# EAGLE library part PIC24FJXXGB002 (library lib_stankus)
Microchip PIC24FJXXGB002 MCU
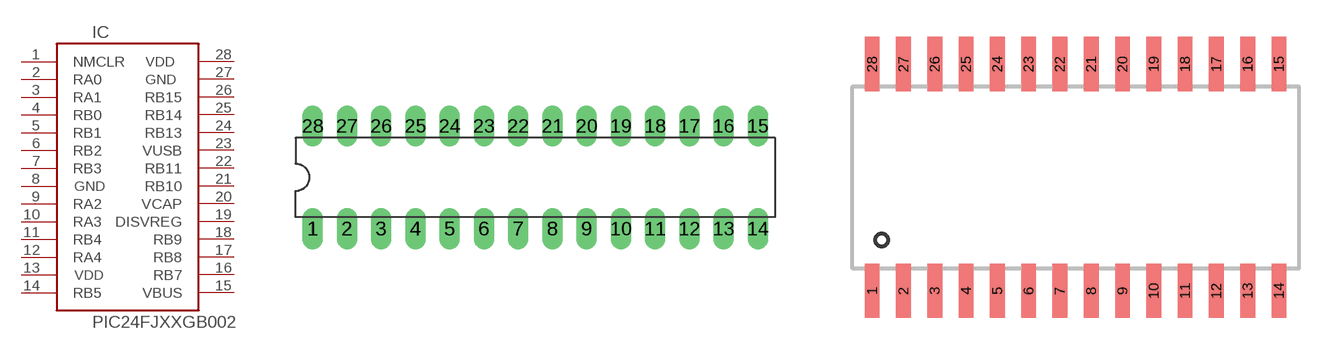
[diagram p14: symbol with the pads of SDIL28_BIG; footprints SDIL28_BIG, SO28W]

Designator prefix IC

## PIC24FJXXGB002-SDIL28_BIG  [SDIL28_BIG]
1  NMCLR  pas
2  RA0  pas
3  RA1  pas
4  RB0  pas
5  RB1  pas
6  RB2  pas
7  RB3  pas
8  GND  pas
9  RA2  pas
10  RA3  pas
11  RB4  pas
12  RA4  pas
13  VDD  pas
14  RB5  pas
15  VBUS  pas
16  RB7  pas
17  RB8  pas
18  RB9  pas
19  DISVREG  pas
20  VCAP  pas
21  RB10  pas
22  RB11  pas
23  VUSB  pas
24  RB13  pas
25  RB14  pas
26  RB15  pas
27  GND  pas
28  VDD  pas

## PIC24FJXXGB002-SO28W  [SO28W]
Pads as for SDIL28_BIG

## Footprint SDIL28_BIG (pad centres in mm)
SDIL28, 60MIL PADS
drill 0.8 pad 1.524 long: 1 -16.51,-3.81; 2 -13.97,-3.81; 3 -11.43,-3.81; 4 -8.89,-3.81; 5 -6.35,-3.81; 6 -3.81,-3.81; 7 -1.27,-3.81; 8 1.27,-3.81; 9 3.81,-3.81; 10 6.35,-3.81; 11 8.89,-3.81; 12 11.43,-3.81; 13 13.97,-3.81; 14 16.51,-3.81; 15 16.51,3.81; 16 13.97,3.81; 17 11.43,3.81; 18 8.89,3.81; 19 6.35,3.81; 20 3.81,3.81; 21 1.27,3.81; 22 -1.27,3.81; 23 -3.81,3.81; 24 -6.35,3.81; 25 -8.89,3.81; 26 -11.43,3.81; 27 -13.97,3.81; 28 -16.51,3.81

## Footprint SO28W (pad centres in mm)
SO28W
smd 0.6 x 2.2: 1 -8.255,-4.6; 2 -6.985,-4.6; 3 -5.715,-4.6; 4 -4.445,-4.6; 5 -3.175,-4.6; 6 -1.905,-4.6; 7 -0.635,-4.6; 8 0.635,-4.6; 9 1.905,-4.6; 10 3.175,-4.6; 11 4.445,-4.6; 12 5.715,-4.6; 13 6.985,-4.6; 14 8.255,-4.6; 15 8.255,4.6; 16 6.985,4.6; 17 5.715,4.6; 18 4.445,4.6; 19 3.175,4.6; 20 1.905,4.6; 21 0.635,4.6; 22 -0.635,4.6; 23 -1.905,4.6; 24 -3.175,4.6; 25 -4.445,4.6; 26 -5.715,4.6; 27 -6.985,4.6; 28 -8.255,4.6